# EAGLE library part 6871XX149022_687116149022 (library WR-FPC)
WR-FPC 0.50 mm SMT ZIF Horizontal - Bottom Contact KIND PROPERTIES Pitch 0.5 mm MATERIAL PROPERTIES Insulator Material PA6T Contact Material Phosphor Bronze Contact Plating 120 (µ") Tin over 50 (µ") Nickel Contact Type Stamped Solder Tabs Brass <https://www.we-online.com/catalog/media/o32848v209%20Family_Con_FPC_ZIF_050_6871xx149022.jpg> Details see: https://www.we-online.com/catalog/en/FPC_0_5_SMT_ZIF_HORIZONTAL_BUTTOM_CONTACT_6871XX149022/ Updated by Ella Wu 2020-08-26 2020(C) Wurth Elektronik
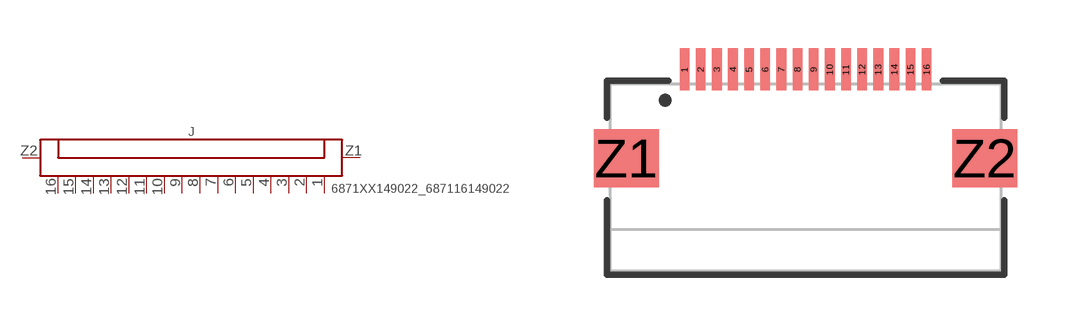
[diagram p80: symbol with the pads of 687116149022; footprint 687116149022]

Designator prefix J

## 6871XX149022_687116149022 (CONTACT-RESISTANCE: 50mOhm; DATASHEET-URL: https://www.we-online.com/redexpert/spec/687116149022?ae; IR: 0.5A; L: 12.1mm; PACKAGING: Tape and Reel; PART-NUMBER: 687116149022; PINS: 16; PITCH: 0.5mm; TYPE: Horizontal; VALUE: 687116149022; WORKING-VOLTAGE: 50V(AC))  [687116149022]
1  1  pas
2  2  pas
3  3  pas
4  4  pas
5  5  pas
6  6  pas
7  7  pas
8  8  pas
9  9  pas
10  10  pas
11  11  pas
12  12  pas
13  13  pas
14  14  pas
15  15  pas
16  16  pas
Z1  Z1  pas
Z2  Z2  pas

## Footprint 687116149022 (pad centres in mm)
WR-FPC 0.50 mm SMT ZIF Horizontal - Bottom Contact ,16Pins
smd 0.3 x 1.3: 1 -3.75,3.35; 2 -3.25,3.35; 3 -2.75,3.35; 4 -2.25,3.35; 5 -1.75,3.35; 6 -1.25,3.35; 7 -0.75,3.35; 8 -0.25,3.35; 9 0.25,3.35; 10 0.75,3.35; 11 1.25,3.35; 12 1.75,3.35; 13 2.25,3.35; 14 2.75,3.35; 15 3.25,3.35; 16 3.75,3.35
smd 2 x 1.8: Z1 -5.55,0.6; Z2 5.55,0.6